# Altium footprint library TJA1051T.PcbLib: 1 footprints
Each footprint in its own frame and in the unit in brackets; x right, y up, seen from the top. Pads: shape width x height; smd on the part's side, far side on the other; paste and mask are expansions set on the pad; w line width, h text height; cw(c..) or ccw(c..) is an arc to the next point about the centre after c.
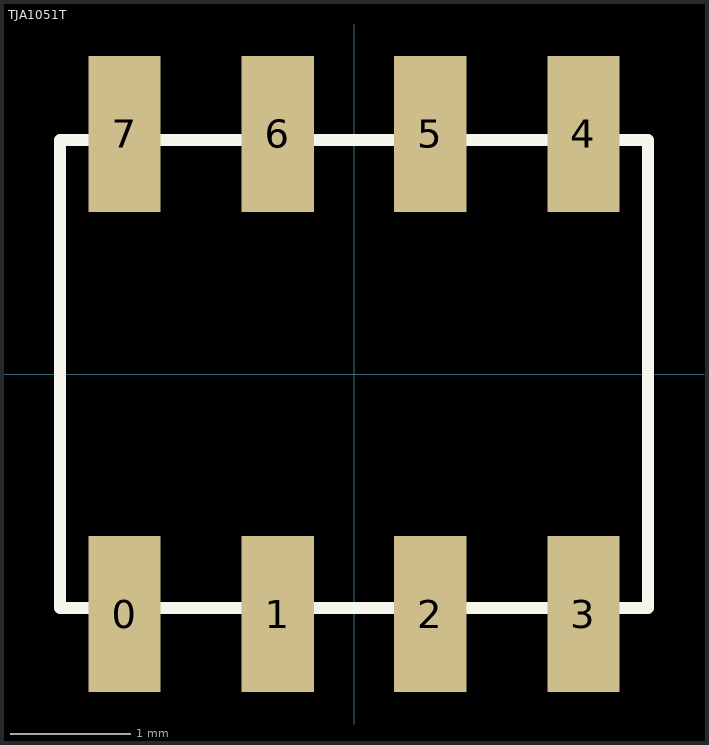
[diagram p0: the footprint, top view; thin cyan lines are the x and y axes]

## TJA1051T [mm]
pads (8):
  rect 0.6x1.3 smd: 0(-1.91,-2) 1(-0.635,-2) 2(0.635,-2) 3(1.91,-2) 4(1.91,2) 5(0.635,2) 6(-0.635,2) 7(-1.91,2)
Top Overlay:
  lines w0.1: -2.45,-1.95 -2.45,1.95 2.45,1.95 2.45,-1.95 -2.45,-1.95